# Altium integrated library Screw.IntLib: 9 symbols
Pins are listed as number, name and electrical type; pins without a type are passive.

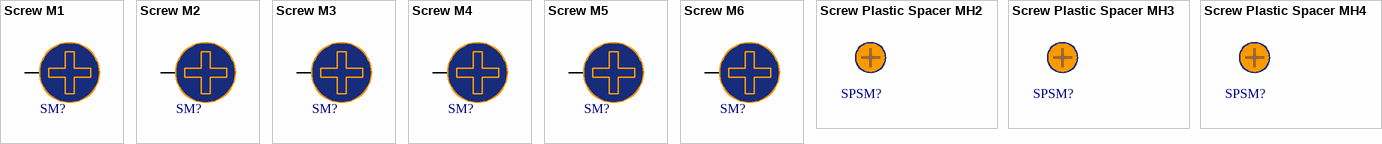
[diagram p0: symbols Screw M1 to Screw Plastic Spacer MH4]

## Screw M1
designator SM?  (no BOM)
Screw, hole diameter 1.8mm, PanHead 3.2mm & PanHead 2.5mm; DatasheetVersion: 2022
footprint Screw-M1P6 (Screw, hole diameter 1.8mm, PanHead 3.2mm)
footprint Screw-M1P6-Wovia (Screw, hole diameter 1.8mm, PanHead 3.2mm)
footprint Screw-M1P6FT (Screw, hole diameter 1.8mm, PanHead 2.5mm)
pins: 1

## Screw M2
designator SM?  (no BOM)
Screw, hole diameter 2.2mm & 2.2mm, PanHead 3.2mm & 4mm & 5mm & 6mm; DatasheetVersion: 2022
footprint Screw-M2 (Screw, hole diameter 2.2mm, PanHead 4mm)
footprint Screw-M2-WOVIA (Screw, hole diameter 2.2mm, PanHead 4mm)
footprint Screw-M2F (Screw, hole diameter 2.2mm, PanHead 5mm)
footprint Screw-M2FT (Screw, hole diameter 2.2mm, PanHead 3.2mm)
footprint Screw-M2P5 (Screw, hole diameter 2.7mm, PanHead 5mm)
footprint Screw-M2P5-WOVIA (Screw, hole diameter 2.7mm, PanHead 5mm)
footprint Screw-M2P5F (Screw, hole diameter 2.7mm, PanHead 6mm)
footprint Screw-M2P5FT (Screw, hole diameter 2.7mm, PanHead 4mm)
footprint Screw-Chsh-M2 (Screw, hole diameter 2.2mm, PanHead 4mm, (Make www.tarahiboard.com))
footprint Screw-Chsh-M2-wovia (Screw, hole diameter 2.2mm, PanHead 4mm, (Make www.tarahiboard.com))
footprint Screw-Chsh-M2F (Screw, hole diameter 2.2mm, PanHead 5mm, (Make www.tarahiboard.com))
footprint Screw-Chsh-M2FT (Screw, hole diameter 2.2mm, PanHead 3.2mm, (Make www.tarahiboard.com))
footprint Screw-Chsh-M2P5 (Screw, hole diameter 2.7mm, PanHead 5mm, (Make www.tarahiboard.com))
footprint Screw-Chsh-M2P5-Wovia (Screw, hole diameter 2.7mm, PanHead 5mm, (Make www.tarahiboard.com))
footprint Screw-Chsh-M2P5F (Screw, hole diameter 2.7mm, PanHead 6mm, (Make www.tarahiboard.com))
footprint Screw-Chsh2-M2 (Screw, hole diameter 2.2mm, PanHead 4mm, (Make www.tarahiboard.com))
footprint Screw-Chsh2-M2-wovia (Screw, hole diameter 2.2mm, PanHead 4mm, (Make www.tarahiboard.com))
footprint Screw-Chsh2-M2F (Screw, hole diameter 2.2mm, PanHead 5mm, (Make www.tarahiboard.com))
footprint Screw-Chsh2-M2FT (Screw, hole diameter 2.2mm, PanHead 3.2mm, (Make www.tarahiboard.com))
footprint Screw-Chsh2-M2P5 (Screw, hole diameter 2.7mm, PanHead 5mm, (Make www.tarahiboard.com))
footprint Screw-Chsh2-M2P5-Wovia (Screw, hole diameter 2.7mm, PanHead 5mm, (Make www.tarahiboard.com))
footprint Screw-Chsh2-M2P5F (Screw, hole diameter 2.7mm, PanHead 6mm, (Make www.tarahiboard.com))
footprint Screw-Chsh-M2P5FT (Screw, hole diameter 2.7mm, PanHead 4mm, (Make www.tarahiboard.com))
footprint Screw-Chsh2-M2P5FT (Screw, hole diameter 2.7mm, PanHead 4mm, (Make www.tarahiboard.com))
footprint Screw-Flth-M2 (Screw, hole diameter 2.2mm, PanHead 4mm, (Make www.tarahiboard.com))
footprint Screw-Flth-M2-wovia (Screw, hole diameter 2.2mm, PanHead 4mm, (Make www.tarahiboard.com))
footprint Screw-Flth-M2F (Screw, hole diameter 2.2mm, PanHead 5mm, (Make www.tarahiboard.com))
footprint Screw-Flth-M2FT (Screw, hole diameter 2.2mm, PanHead 3.2mm, (Make www.tarahiboard.com))
footprint Screw-Flth-M2P5 (Screw, hole diameter 2.7mm, PanHead 5mm, (Make www.tarahiboard.com))
footprint Screw-Flth-M2P5-Wovia (Screw, hole diameter 2.7mm, PanHead 5mm, (Make www.tarahiboard.com))
footprint Screw-Flth-M2P5F (Screw, hole diameter 2.7mm, PanHead 6mm, (Make www.tarahiboard.com))
footprint Screw-Flth-M2P5FT (Screw, hole diameter 2.7mm, PanHead 4mm, (Make www.tarahiboard.com))
footprint Screw-Panh-M2 (Screw, hole diameter 2.2mm, PanHead 4mm)
footprint Screw-Panh-M2-wovia (Screw, hole diameter 2.2mm, PanHead 4mm)
footprint Screw-Panh-M2F (Screw, hole diameter 2.2mm, PanHead 5mm)
footprint Screw-Panh-M2FT (Screw, hole diameter 2.2mm, PanHead 3.2mm)
footprint Screw-Panh-M2P5 (Screw, hole diameter 2.7mm, PanHead 5mm)
footprint Screw-Panh-M2P5-Wovia (Screw, hole diameter 2.7mm, PanHead 5mm)
footprint Screw-Panh-M2P5F (Screw, hole diameter 2.7mm, PanHead 6mm)
footprint Screw-Panh-M2P5FT (Screw, hole diameter 2.7mm, PanHead 4mm)
footprint Screw-Panh2-M2 (Screw, hole diameter 2.2mm, PanHead 4mm)
footprint Screw-Panh2-M2-wovia (Screw, hole diameter 2.2mm, PanHead 4mm)
footprint Screw-Panh2-M2F (Screw, hole diameter 2.2mm, PanHead 5mm)
footprint Screw-Panh2-M2FT (Screw, hole diameter 2.2mm, PanHead 3.2mm)
footprint Screw-Panh2-M2P5 (Screw, hole diameter 2.7mm, PanHead 5mm)
footprint Screw-Panh2-M2P5-Wovia (Screw, hole diameter 2.7mm, PanHead 5mm)
footprint Screw-Panh2-M2P5F (Screw, hole diameter 2.7mm, PanHead 6mm)
footprint Screw-Panh2-M2P5FT (Screw, hole diameter 2.7mm, PanHead 4mm)
pins: 1

## Screw M3
designator SM?  (no BOM)
Screw, hole diameter 3.2mm & 3.7mm, PanHead 5mm & 5.6mm & 6mm & 7mm; DatasheetVersion: 2022
footprint Screw-Chsh-M3 (Screw, hole diameter 3.2mm, PanHead 6mm)
footprint Screw-Chsh-M3-wopad (Screw, hole diameter 3.2mm, PanHead 0mm)
footprint Screw-Chsh-M3-wovia (Screw, hole diameter 3.2mm, PanHead 6mm)
footprint Screw-Chsh-M3F (Screw, hole diameter 3.2mm, PanHead 7mm)
footprint Screw-Chsh-M3FT (Screw, hole diameter 3.2mm, PanHead 5mm)
footprint Screw-Chsh-M3P5 (Screw, hole diameter 3.7mm, PanHead 7mm)
footprint Screw-Chsh-M3P5FT (Screw, hole diameter 3.7mm, PanHead 5.6mm)
footprint Screw-Flth2-M3 (Screw, hole diameter 3.2mm, PanHead 6mm)
footprint Screw-Flth2-M3-wopad (Screw, hole diameter 3.2mm, PanHead 0mm)
footprint Screw-Flth2-M3-wovia (Screw, hole diameter 3.2mm, PanHead 6mm)
footprint Screw-Flth2-M3F (Screw, hole diameter 3.2mm, PanHead 7mm)
footprint Screw-Flth2-M3FT (Screw, hole diameter 3.2mm, PanHead 5mm)
footprint Screw-Flth2-M3P5 (Screw, hole diameter 3.7mm, PanHead 7mm)
footprint Screw-Flth2-M3P5FT (Screw, hole diameter 3.7mm, PanHead 5.6mm,)
footprint Screw-Flth-M3 (Screw, hole diameter 3.2mm, PanHead 6mm)
footprint Screw-Flth-M3-wopad (Screw, hole diameter 3.2mm, PanHead 0mm)
footprint Screw-Flth-M3-wovia (Screw, hole diameter 3.2mm, PanHead 6mm)
footprint Screw-Flth-M3F (Screw, hole diameter 3.2mm, PanHead 7mm)
footprint Screw-Flth-M3FT (Screw, hole diameter 3.2mm, PanHead 5mm)
footprint Screw-Flth-M3P5 (Screw, hole diameter 3.7mm, PanHead 7mm)
footprint Screw-Flth-M3P5FT (Screw, hole diameter 3.7mm, PanHead 5.6mm)
footprint Screw-M3 (Screw, hole diameter 3.2mm, PanHead 6mm)
footprint Screw-M3-wopad (Screw, hole diameter 3.2mm, PanHead 0mm)
footprint Screw-M3-wovia (Screw, hole diameter 3.2mm, PanHead 6mm)
footprint Screw-M3F (Screw, hole diameter 3.2mm, PanHead 7mm)
footprint Screw-M3FT (Screw, hole diameter 3.2mm, PanHead 5mm)
footprint Screw-M3P5 (Screw, hole diameter 3.7mm, PanHead 7mm)
footprint Screw-M3P5FT (Screw, hole diameter 3.7mm, PanHead 5.6mm)
footprint Screw-Panh-M3 (Screw, hole diameter 3.2mm, PanHead 6mm,)
footprint Screw-Panh-M3-wopad (Screw, hole diameter 3.2mm, PanHead 0mm)
footprint Screw-Panh-M3-wovia (Screw, hole diameter 3.2mm, PanHead 6mm)
footprint Screw-Panh-M3F (Screw, hole diameter 3.2mm, PanHead 7mm)
footprint Screw-Panh-M3FT (Screw, hole diameter 3.2mm, PanHead 5mm)
footprint Screw-Panh-M3P5 (Screw, hole diameter 3.7mm, PanHead 7mm)
footprint Screw-Panh-M3P5FT (Screw, hole diameter 3.7mm, PanHead 5.6mm)
pins: 1

## Screw M4
designator SM?  (no BOM)
Screw, hole diameter 4.2mm, PanHead 8mm & 9mm & 6.4mm; DatasheetVersion: 2022
footprint Screw-Chsh-M4 (Screw, hole diameter 4.2mm, PanHead 8mm)
footprint Screw-Chsh-M4F (Screw, hole diameter 4.2mm, PanHead 9mm)
footprint Screw-Chsh-M4FT (Screw, hole diameter 4.2mm, PanHead 6.4mm)
footprint Screw-Flth-M4 (Screw, hole diameter 4.2mm, PanHead 8mm)
footprint Screw-Flth-M4F (Screw, hole diameter 4.2mm, PanHead 9mm)
footprint Screw-Flth-M4FT (Screw, hole diameter 4.2mm, PanHead 6.4mm)
footprint Screw-M4 (Screw, hole diameter 4.2mm, PanHead 8mm)
footprint Screw-M4F (Screw, hole diameter 4.2mm, PanHead 9mm)
footprint Screw-M4FT (Screw, hole diameter 4.2mm, PanHead 6.4mm)
footprint Screw-Panh-M4 (Screw, hole diameter 4.2mm, PanHead 8mm)
footprint Screw-Panh-M4F (Screw, hole diameter 4.2mm, PanHead 9mm)
footprint Screw-Panh-M4FT (Screw, hole diameter 4.2mm, PanHead 6.4mm)
pins: 1

## Screw M5
designator SM?  (no BOM)
Screw, hole diameter 5.2mm, PanHead 8mm & 10mm; DatasheetVersion: 2022
footprint Screw-Chsh-M5 (Screw, hole diameter 5.2mm, PanHead 10mm)
footprint Screw-Chsh-M5FT (Screw, hole diameter 5.2mm, PanHead 8mm)
footprint Screw-Flth-M5 (Screw, hole diameter 5.2mm, PanHead 10mm)
footprint Screw-Flth-M5FT (Screw, hole diameter 5.2mm, PanHead 8mm)
footprint Screw-M5 (Screw, hole diameter 5.2mm, PanHead 10mm)
footprint Screw-M5FT (Screw, hole diameter 5.2mm, PanHead 8mm)
footprint Screw-Panh-M5 (Screw, hole diameter 5.2mm, PanHead 10mm)
footprint Screw-Panh-M5FT (Screw, hole diameter 5.2mm, PanHead 8mm)
pins: 1

## Screw M6
designator SM?  (no BOM)
Screw, hole diameter 6.2mm, PanHead 9.6mm & 12mm; DatasheetVersion: 2022
footprint Screw-Chsh-M6 (Screw, hole diameter 6.2mm, PanHead 12mm)
footprint Screw-Chsh-M6FT (Screw, hole diameter 6.2mm, PanHead 9.6mm)
footprint Screw-Flth-M6 (Screw, hole diameter 6.2mm, PanHead 12mm)
footprint Screw-Flth-M6FT (Screw, hole diameter 6.2mm, PanHead 9.6mm,)
footprint Screw-M6 (Screw, hole diameter 6.2mm, PanHead 12mm)
footprint Screw-M6FT (Screw, hole diameter 6.2mm, PanHead 9.6mm)
footprint Screw-Panh-M6 (Screw, hole diameter 6.2mm, PanHead 12mm)
footprint Screw-Panh-M6FT (Screw, hole diameter 6.2mm, PanHead 9.6mm)
pins: 1

## Screw Plastic Spacer MH2
designator SPSM?  (no BOM)
Screw Plastic Spacer, hole diameter 2mm,; DatasheetVersion: 2022
footprint Screw-Plastic-Spacer-MH2 (Screw Plastic Spacer, hole diameter 2mm)

## Screw Plastic Spacer MH3
designator SPSM?  (no BOM)
Screw Plastic Spacer, hole diameter 3mm,; DatasheetVersion: 2022
footprint Screw-Plastic-Spacer-MH3 (Screw Plastic Spacer, hole diameter 3mm)
footprint Screw-Plastic-Spacer-MH3P5 (Screw Plastic Spacer, hole diameter 3.5mm)

## Screw Plastic Spacer MH4
designator SPSM?  (no BOM)
Screw Plastic Spacer, hole diameter 4mm,; DatasheetVersion: 2022
footprint Screw-Plastic-Spacer-MH4 (Screw Plastic Spacer, hole diameter 4mm)